# EAGLE library part PIC16F18X7 (library AWJLEagleLib)
PIC16F1827/1847 extended mid-range MCU
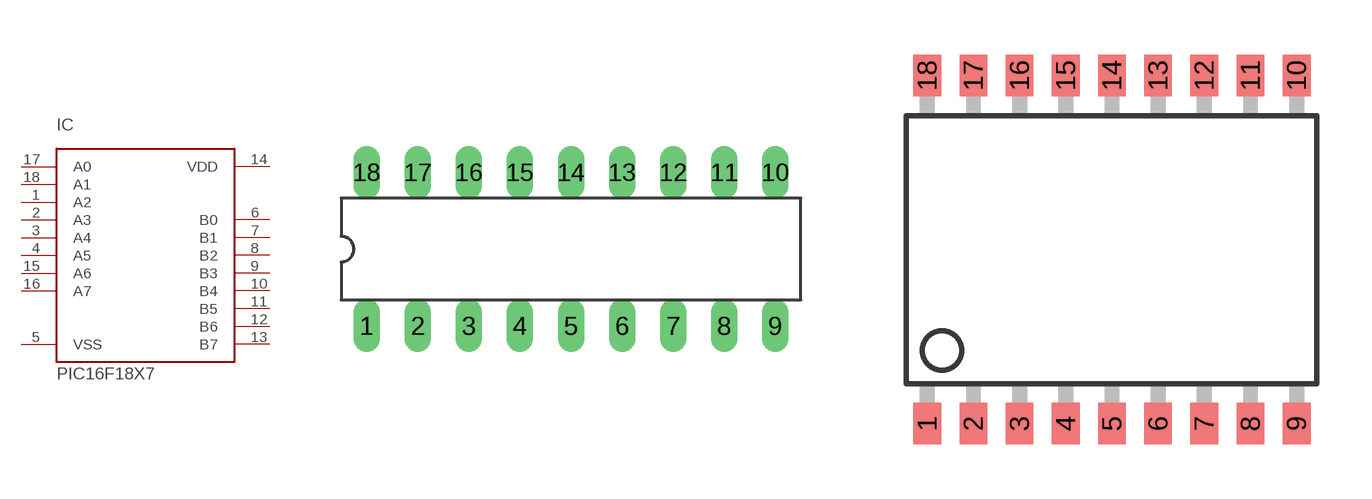
[diagram p0: symbol with the pads of DIL18; footprints DIL18, SOIC18-W]

Designator prefix IC

## PIC16F18X7P  [DIL18]
1  A2
2  A3
3  A4
4  A5  in
5  VSS  pwr
6  B0
7  B1
8  B2
9  B3
10  B4
11  B5
12  B6
13  B7
14  VDD  pwr
15  A6
16  A7
17  A0
18  A1

## PIC16F18X7SO  [SOIC18-W]
Pads as for DIL18

## Footprint DIL18 (pad centres in mm)
DIL18
drill 0.813 long: 1 -8.89,-3.81; 2 -6.35,-3.81; 3 -3.81,-3.81; 4 -1.27,-3.81; 5 1.27,-3.81; 6 3.81,-3.81; 7 6.35,-3.81; 8 8.89,-3.81; 9 11.43,-3.81; 10 11.43,3.81; 11 8.89,3.81; 12 6.35,3.81; 13 3.81,3.81; 14 1.27,3.81; 15 -1.27,3.81; 16 -3.81,3.81; 17 -6.35,3.81; 18 -8.89,3.81

## Footprint SOIC18-W (pad centres in mm)
SOIC18 wide
smd 0.762 x 1.143: 1 -5.08,-4.788; 2 -3.81,-4.788; 3 -2.54,-4.788; 4 -1.27,-4.788; 5 0,-4.788; 6 1.27,-4.788; 7 2.54,-4.788; 8 3.81,-4.788; 9 5.08,-4.788; 10 5.08,4.788; 11 3.81,4.788; 12 2.54,4.788; 13 1.27,4.788; 14 0,4.788; 15 -1.27,4.788; 16 -2.54,4.788; 17 -3.81,4.788; 18 -5.08,4.788